# Altium schematic symbol library LTM8051.SchLib: 9 symbols
Pins are listed as number, name and electrical type; pins without a type are passive.

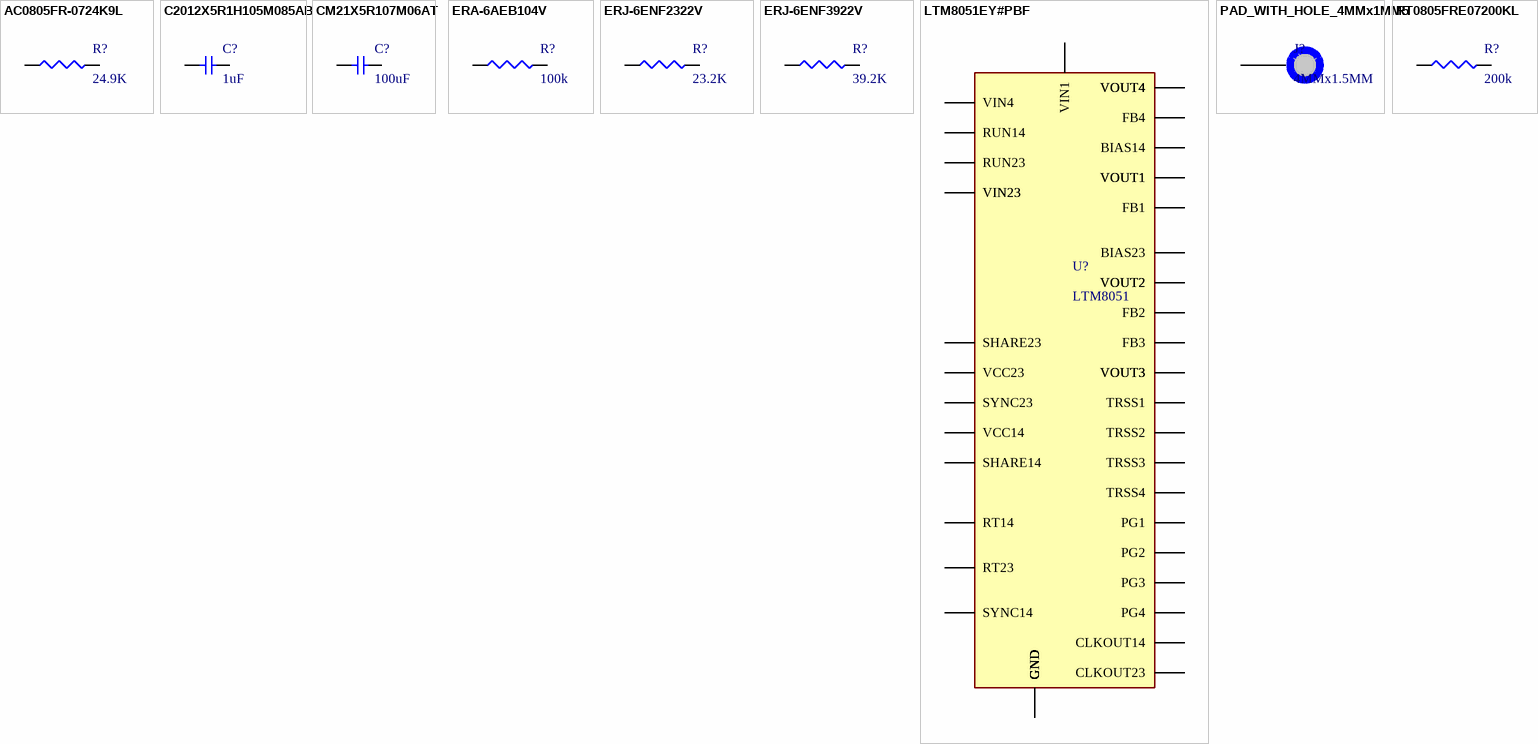
[diagram p0: symbols AC0805FR-0724K9L to RT0805FRE07200KL]

## AC0805FR-0724K9L
designator R?, comment 24.9K
SMD Chip Resistor, 24.9 kOhm, ± 1%, 125 mW, 0805 [2012 Metric], Thick Film, General Purpose; Manufacturer: Yageo; Manufacturer Part Number: AC0805FR-0724K9L; Power Rating: 125mW; Value: 24.9kR; Voltage Rating: 150V; Temperature Coefficient: 100ppm/°C; Supplier: Digi-Key; Supplier Part Number: 13-AC0805FR-0724K9LCT-ND; RoHS: Yes; Category: Chip SMD Resistors; Stock: 35788; Pricing: 1=0,1, 10=0,029, 50=0,0188, 100=0,0158, 500=0,01096, 1000=0,00948 (USD); Case/Package: 0805; Case Code (Imperial): 0805; Case Code (Metric): 2012; Min Operating Temperature: -55°C; Max Operating Temperature: 155°C; Packaging: Tape and Reel; Tolerance: 1%; Number of Terminations: 2; Termination: SMD/SMT; Max Power Dissipation: 125mW; Features: Moisture Resistant,Automotive AEC-Q200; Series: AC; Length: 0.079inch; Width: 1.25mm; Height: 0.024inch; RoHS Compliant: Yes; ComponentLink1URL: http://www.mouser.com/ds/2/447/yageodocoutput-1111992.pdf?src-supplier=Mouser; ComponentLink1Description: http://www.mouser.com/ds/2/447/yageodocoutput-1111992.pdf?src-supplier=Mouser; ComponentLink2URL: http://www.yageo.com/NewPortal/yageodocoutput?fileName=/pdf/R-Chip/PYu-AC_51_RoHS_L_6.pdf&src-supplier=Digi-Key; ComponentLink2Description: http://www.yageo.com/NewPortal/yageodocoutput?fileName=/pdf/R-Chip/PYu-AC_51_RoHS_L_6.pdf&src-supplier=Digi-Key
footprint R0805
pins: 1, 2

## C2012X5R1H105M085AB
designator C?, comment 1uF
Cap Ceramic 1uF 50V X5R 20% SMD 0805 85°C Punched Paper T/R; Manufacturer: TDK; Manufacturer Part Number: C2012X5R1H105M085AB; Supplier: Digi-Key; Supplier Part Number: 445-14402-1-ND; RoHS: Yes; Category: Ceramic Capacitors; Stock: 11936; Pricing: 1=0,24, 10=0,164, 50=0,1094, 100=0,0931, 500=0,0657, 1000=0,05748 (USD); Mounting Technology: Surface Mount; Case/Package: 0805; Case Code (Metric): 2012; Case Code (Imperial): 0805; Weight: 0.000194oz; Dielectric Material: Ceramic; Min Operating Temperature: -55°C; Max Operating Temperature: 85°C; Package Quantity: 4000; Packaging: Tape and Reel; Value: 1uF; Tolerance: 20%; Voltage Rating: 50V; Dielectric: X5R; Termination: SMD/SMT; Voltage Rating (DC): 50V; Series: C; Length: 0.079inch; Width: 0.049inch; Height: 0.85mm; Thickness: 0.039inch; Lead Free: Lead Free; RoHS Compliant: Yes; ComponentLink1URL: https://datasheet.ciiva.com/14896/tdkmlcccaprange-14896957.pdf?src-supplier=Digi-Key; ComponentLink1Description: https://datasheet.ciiva.com/14896/tdkmlcccaprange-14896957.pdf?src-supplier=Digi-Key; ComponentLink2URL: https://datasheet.ciiva.com/14896/tdkmlcccaprange-14896958.pdf?src-supplier=Digi-Key; ComponentLink2Description: https://datasheet.ciiva.com/14896/tdkmlcccaprange-14896958.pdf?src-supplier=Digi-Key; ComponentLink3URL: https://datasheet.ciiva.com/14896/tdkmlcccaprange-14896959.pdf?src-supplier=Digi-Key; ComponentLink3Description: https://datasheet.ciiva.com/14896/tdkmlcccaprange-14896959.pdf?src-supplier=Digi-Key
footprint C0805
pins: 1, 2

## CM21X5R107M06AT
designator C?, comment 100uF
100UF 6.3V 20% 0805; Manufacturer: Kyocera AVX; Manufacturer Part Number: CM21X5R107M06AT; Supplier: Digi-Key; Supplier Part Number: 478-CM21X5R107M06ATCT-ND; RoHS: No; Category: Uncategorized; Stock: 7994; Pricing: 1=1,2, 10=0,95, 50=0,8236, 100=0,7128, 500=0,53856, 1000=0,4752 (USD)
footprint C0805
pins: 1, 2

## ERA-6AEB104V
designator R?, comment 100k
Res Thin Film 0805 100K Ohm 0.1% 1/8W ±25ppm/°C Molded SMD SMD Punched Carrier T/R; Manufacturer: Panasonic; Manufacturer Part Number: ERA-6AEB104V; Supplier: Digi-Key; Supplier Part Number: P100KDACT-ND; RoHS: Yes; Category: Chip SMD Resistors; Stock: 191439; Pricing: 1=0,31, 10=0,264, 50=0,1394, 100=0,1034, 500=0,0625, 1000=0,04327 (USD); ComponentLink1URL: https://datasheet.ciiva.com/11811/0900766b80beefcc-11811258.pdf?src-supplier=Rs; ComponentLink1Description: https://datasheet.ciiva.com/11811/0900766b80beefcc-11811258.pdf?src-supplier=Rs; ComponentLink2URL: https://datasheet.ciiva.com/26335/453651-da-01-en-widerstand-0805-era-26335725.pdf?src-supplier=Conrad; ComponentLink2Description: https://datasheet.ciiva.com/26335/453651-da-01-en-widerstand-0805-era-26335725.pdf?src-supplier=Conrad; ComponentLink3URL: https://datasheet.ciiva.com/22758/485442-22758153.pdf?src-supplier=Farnell; ComponentLink3Description: https://datasheet.ciiva.com/22758/485442-22758153.pdf?src-supplier=Farnell; ComponentLink4URL: https://datasheet.ciiva.com/22758/485442-22758155.pdf?src-supplier=Farnell; ComponentLink4Description: https://datasheet.ciiva.com/22758/485442-22758155.pdf?src-supplier=Farnell; ComponentLink5URL: https://datasheet.ciiva.com/43457/485442-43457791.pdf?src-supplier=Farnell; ComponentLink5Description: https://datasheet.ciiva.com/43457/485442-43457791.pdf?src-supplier=Farnell; ComponentLink6URL: https://datasheet.ciiva.com/16396/aoa0000ce26-16396829.pdf?src-supplier=Future+Electronics; ComponentLink6Description: https://datasheet.ciiva.com/16396/aoa0000ce26-16396829.pdf?src-supplier=Future+Electronics; ComponentLink7URL: https://datasheet.ciiva.com/9186/aoa0000ce26-9186703.pdf?src-supplier=Avnet; ComponentLink7Description: https://datasheet.ciiva.com/9186/aoa0000ce26-9186703.pdf?src-supplier=Avnet; ComponentLink8URL: https://datasheet.ciiva.com/46438/485442-46438215.pdf?src-supplier=Element14; ComponentLink8Description: https://datasheet.ciiva.com/46438/485442-46438215.pdf?src-supplier=Element14; ComponentLink9URL: https://datasheet.ciiva.com/46438/485442-46438216.pdf?src-supplier=Element14; ComponentLink9Description: https://datasheet.ciiva.com/46438/485442-46438216.pdf?src-supplier=Element14; ComponentLink10URL: https://datasheet.ciiva.com/46438/485442-46438217.pdf?src-supplier=Element14; ComponentLink10Description: https://datasheet.ciiva.com/46438/485442-46438217.pdf?src-supplier=Element14; ComponentLink11URL: https://datasheet.ciiva.com/16768/70068849-16768795.pdf?src-supplier=Allied+Electronics; ComponentLink11Description: https://datasheet.ciiva.com/16768/70068849-16768795.pdf?src-supplier=Allied+Electronics; ComponentLink12URL: https://datasheet.ciiva.com/16763/70068849-16763132.pdf?src-supplier=Allied+Electronics; ComponentLink12Description: https://datasheet.ciiva.com/16763/70068849-16763132.pdf?src-supplier=Allied+Electronics; ComponentLink13URL: https://datasheet.ciiva.com/48425/era-eng-tds-48425749.pdf?src-supplier=Distrelec; ComponentLink13Description: https://datasheet.ciiva.com/48425/era-eng-tds-48425749.pdf?src-supplier=Distrelec; ComponentLink14URL: https://datasheet.ciiva.com/48529/era-eng-tds-48529996.pdf?src-supplier=Distrelec; ComponentLink14Description: https://datasheet.ciiva.com/48529/era-eng-tds-48529996.pdf?src-supplier=Distrelec
footprint R0805
pins: 1, 2

## ERJ-6ENF2322V
designator R?, comment 23.2K
Res Thick Film 0805 23.2K Ohm 1% 1/8W |100ppm/|C SMD Punched Carrier T/R; Manufacturer: Panasonic; Manufacturer Part Number: ERJ-6ENF2322V; Value: 23.2kR; Power Rating: 125mW; Voltage Rating: 150V; Temperature Coefficient: 100ppm/°C; Supplier: Mouser; Supplier Part Number: 667-ERJ-6ENF2322V; RoHS: Yes; Category: Chip SMD Resistors; Stock: 39678; Pricing: 1=0,1, 10=0,047, 50=0,047, 100=0,021, 1000=0,015, 10000=0,01 (USD); Mounting Technology: Surface Mount; Case/Package: 0805; Case Code (Metric): 2012; Case Code (Imperial): 0805; Contact Plating: Tin; Min Operating Temperature: -55°C; Max Operating Temperature: 155°C; Tolerance: 1%; Packaging: Tape and Reel; Package Quantity: 1; Resistor Type: Thick Film; Number of Terminations: 2; Termination: SMD/SMT; Max Power Dissipation: 125mW; Voltage Rating (DC): 150V; Features: Automotive AEC-Q200; Series: ERJ; Resistance Tolerance: 1%; Technology: THICK FILM; Length: 2mm; Width: 1.2mm; Height: 0.6mm; Depth: 1.25mm; Reach SVHC Compliant: Yes; Lead Free: Lead Free; RoHS Compliant: Yes; ComponentLink1URL: https://datasheet.ciiva.com/30086/aoa0000ce2-30086557.pdf?src-supplier=Onlinecomponents.com; ComponentLink1Description: https://datasheet.ciiva.com/30086/aoa0000ce2-30086557.pdf?src-supplier=Onlinecomponents.com; ComponentLink2URL: https://datasheet.ciiva.com/15829/aoa0000ce2-15829836.pdf?src-supplier=Onlinecomponents.com; ComponentLink2Description: https://datasheet.ciiva.com/15829/aoa0000ce2-15829836.pdf?src-supplier=Onlinecomponents.com; ComponentLink3URL: https://datasheet.ciiva.com/7870/aoa0000ce2-7870831.pdf?src-supplier=Element14; ComponentLink3Description: https://datasheet.ciiva.com/7870/aoa0000ce2-7870831.pdf?src-supplier=Element14; ComponentLink4URL: https://datasheet.ciiva.com/16770/70260748-16770232.pdf?src-supplier=Allied+Electronics; ComponentLink4Description: https://datasheet.ciiva.com/16770/70260748-16770232.pdf?src-supplier=Allied+Electronics; ComponentLink5URL: https://datasheet.ciiva.com/16766/70260748-16766008.pdf?src-supplier=Allied+Electronics; ComponentLink5Description: https://datasheet.ciiva.com/16766/70260748-16766008.pdf?src-supplier=Allied+Electronics; ComponentLink6URL: https://datasheet.ciiva.com/28548/1694929-28548334.pdf?src-supplier=Element14; ComponentLink6Description: https://datasheet.ciiva.com/28548/1694929-28548334.pdf?src-supplier=Element14; ComponentLink7URL: https://datasheet.ciiva.com/24026/aoa0000ce2-24026235.pdf?src-supplier=Mouser; ComponentLink7Description: https://datasheet.ciiva.com/24026/aoa0000ce2-24026235.pdf?src-supplier=Mouser
footprint R0805
pins: 1, 2

## ERJ-6ENF3922V
designator R?, comment 39.2K
Res Thick Film 0805 39.2K Ohm 1% 1/8W ±100ppm/°C Molded SMD Punched Carrier T/R; Manufacturer: Panasonic; Manufacturer Part Number: ERJ-6ENF3922V; Supplier: Digi-Key; Supplier Part Number: P39.2KCCT-ND; RoHS: Yes; Category: Chip SMD Resistors; Stock: 54485; Pricing: 1=0,1, 10=0,079, 50=0,0424, 100=0,0303, 500=0,01878, 1000=0,01333 (USD); ComponentLink1URL: https://datasheet.ciiva.com/15159/getdatasheetpartid-29130-15159258.pdf?src-supplier=Verical; ComponentLink1Description: https://datasheet.ciiva.com/15159/getdatasheetpartid-29130-15159258.pdf?src-supplier=Verical; ComponentLink2URL: https://datasheet.ciiva.com/9189/aoa0000ce2-9189961.pdf?src-supplier=Avnet; ComponentLink2Description: https://datasheet.ciiva.com/9189/aoa0000ce2-9189961.pdf?src-supplier=Avnet
footprint R0805
pins: 1, 2

## LTM8051EY#PBF
designator U?, comment LTM8051
Switching Regulator, Current-mode, 2.5A, 3000kHz Switching Freq-Max, Hybrid, PBGA91; Manufacturer: Analog Devices; Manufacturer Part Number: LTM8051EY#PBF; Supplier: Digi-Key; Supplier Part Number: 505-LTM8051EY#PBF-ND; RoHS: No; Category: Board Mount Modules; Stock: 1085; Pricing: 1=20,72, 10=19,111, 25=18,2516, 80=16,31913, 273=15,56762, 546=14,8161 (USD)
footprint BGA91C80P7X13_625X1125X241
pins: A1 VOUT3, A2 VOUT3, A3 SHARE23, A4 VCC23, A5 BIAS23, A6 VOUT2, A7 VOUT2, B1 VOUT3, B2 VOUT3, B3 GND, B4 GND, B5 GND, B6 VOUT2, B7 VOUT2, C1 TRSS3, C2 TRSS2, C3 GND, C4 GND, C5 GND, C6 CLKOUT23, C7 RUN23, D1 FB3, D2 FB2, D3 GND, D4 GND, D5 GND, D6 CLKOUT14, D7 RUN14, E1 GND, E2 GND, E3 GND, E4 GND, E5 GND, E6 SYNC23, E7 VIN1, F1 GND, F2 GND, F3 GND, F4 GND, F5 GND, F6 SYNC14, F7 VIN4, G1 VIN23, G2 GND, G3 GND_21, G4 GND, G5 GND, G6 GND, G7 GND, H1 VIN23, H2 GND, H3 GND, H4 GND, H5 GND, H6 GND, H7 GND, J1 RT23, J2 TRSS1, J3 GND, J4 GND, J5 GND, J6 GND, J7 GND, K1 RT14, K2 TRSS4, K3 GND, K4 GND, K5 GND, K6 PG2, K7 PG3, L1 FB4, L2 FB1, L3 GND, L4 GND, L5 GND, L6 PG1, L7 PG4, M1 VOUT1, M2 VOUT1, M3 GND, M4 GND, M5 GND, M6 VOUT4, M7 VOUT4, N1 VOUT1, N2 VOUT1, N3 BIAS14, N4 VCC14, N5 SHARE14, N6 VOUT4, N7 VOUT4

## PAD_WITH_HOLE_4MMx1MM5
designator J?, comment 4MMx1.5MM
Pad with a hole 4mmx1.5mm
footprint PAD_WITH_HOLE_4MMx1MM5
pins: 1

## RT0805FRE07200KL
designator R?, comment 200k
High Precision-High Stability Chip Resistor Thin Film 0805 200kOhm 1% Paper T/R; Manufacturer: Yageo; Manufacturer Part Number: RT0805FRE07200KL; Value: 200kR; Power Rating: 125mW; Voltage Rating: 150V; Temperature Coefficient: 50ppm/°C; Supplier: Farnell; Supplier Part Number: 4014099; RoHS: Yes; Category: Chip SMD Resistors; Stock: 4800; Pricing: 10=0,0903, 100=0,0227, 500=0,0177, 1000=0,0126, 2500=0,0123, 5000=0,0121, 25000=0,0118, 50000=0,0116 (EUR); Case/Package: 0805; Case Code (Metric): 2012; Case Code (Imperial): 0805; Weight: 0.000194oz; Contact Plating: Tin,Lead; Min Operating Temperature: -55°C; Max Operating Temperature: 125°C; Package Quantity: 5000; Packaging: Tape and Reel; Tolerance: 1%; Number of Terminations: 2; Termination: SMD/SMT; Max Power Dissipation: 125mW; Voltage Rating (DC): 150V; Series: RT; Length: 0.079inch; Width: 1.2mm; Height: 0.024inch; Lead Free: Lead Free; RoHS Compliant: Yes; ComponentLink1URL: https://datasheet.ciiva.com/2561/pyu-rt-1-to-0-05-rohs-l-5-2561042.pdf?src-supplier=Digi-Key; ComponentLink1Description: https://datasheet.ciiva.com/2561/pyu-rt-1-to-0-05-rohs-l-5-2561042.pdf?src-supplier=Digi-Key; ComponentLink2URL: https://datasheet.ciiva.com/12811/pyu-rt-1-to-0-05-rohs-l-4-12811319.pdf?src-supplier=Mouser; ComponentLink2Description: https://datasheet.ciiva.com/12811/pyu-rt-1-to-0-05-rohs-l-4-12811319.pdf?src-supplier=Mouser; ComponentLink3URL: https://datasheet.ciiva.com/8886/pyu-rt-1-to-0-05-rohs-l-4-8886968.pdf?src-supplier=Avnet; ComponentLink3Description: https://datasheet.ciiva.com/8886/pyu-rt-1-to-0-05-rohs-l-4-8886968.pdf?src-supplier=Avnet
footprint R0805
pins: 1, 2